# Altium schematic symbol library Voltage regulators.SchLib: 6 symbols
Pins are listed as number, name and electrical type; pins without a type are passive.

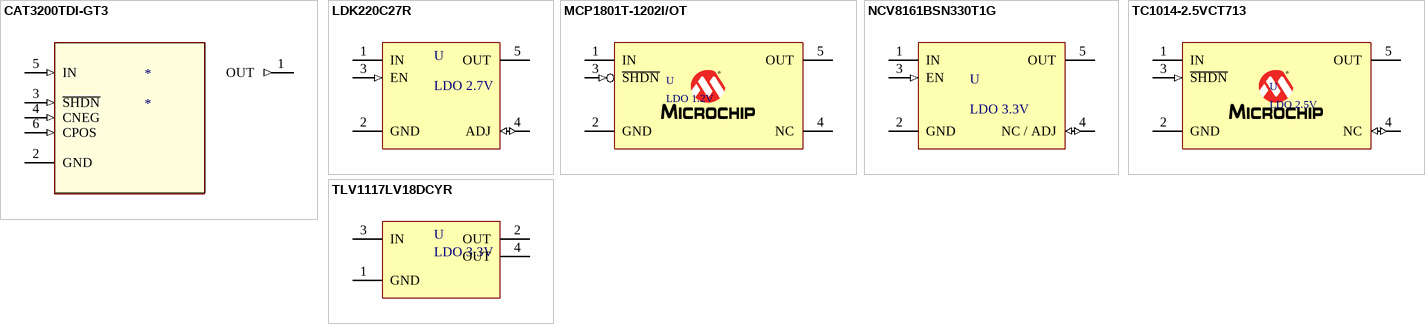
[diagram p0: symbols CAT3200TDI-GT3 to TLV1117LV18DCYR]

## CAT3200TDI-GT3
designator *
Switch-mode step up reg
footprint CAT3200TDI-GT3 (Switch-mode step up reg)
pins: 1 OUT (out), 2 GND, 3 ~{SHDN} (in), 4 CNEG (in), 5 IN (in), 6 CPOS (in)

## LDK220C27R
designator U, comment LDO 2.7V
LDO fixed 2.7V 200mA; Dropout voltage: 200mV; Supplier 1: Farnell; Supplier Part Number 1: 2435555; Output current: 200mA; Output voltage: 2.7V
footprint LDK220C27 (SOT23, 5-Leads, Body 2.95x2.80mm, Pitch 0.95mm, IPC Medium Density)
pins: 1 IN (power), 2 GND (power), 3 EN (in), 4 ADJ (io), 5 OUT (power)

## MCP1801T-1202I/OT
designator U, comment LDO 1.2V
LDO fixed 1.2V 150mA; Dropout voltage: 1.03V; Supplier 1: Farnell; Supplier Part Number 1: 1851980; Output current: 150mA; Output voltage: 1.2V
footprint MCP1801T-1202I/OT (SOT23, 5-Leads, Body 2,90x2,70mm, Pitch 0,95mm, IPC Medium Density)
pins: 1 IN (power), 2 GND (power), 3 ~{SHDN} (in), 4 NC, 5 OUT (power)

## NCV8161BSN330T1G
designator U, comment LDO 3.3V
LDO fixed 3.3V 450mA ultra-low noise; RMS noise: < 100 uVrms; Dropout voltage: 330mV; Supplier Part Number 1: 2775470; Supplier 1: Farnell; Output voltage: 3.3V; Output current: 450mA
footprint NCV8161BSN330T1G (SOT23, 5-Leads, Body 3.00x2.75mm, Pitch 0.95mm, IPC Medium Density)
pins: 1 IN (power), 2 GND (power), 3 EN (in), 4 NC / ADJ (io), 5 OUT (power)

## TC1014-2.5VCT713
designator U, comment LDO 2.5V
LDO fixed 2.5V 50mA; Dropout voltage: 85mV; Output voltage: 2.7V; Supplier 1: Farnell; Supplier Part Number 1: 1439490; Output current: 50mA
footprint TC1014-2.5VCT713 (SOT23, 5-Leads, Body 2,90x2,70mm, Pitch 0,95mm, IPC Medium Density)
pins: 1 IN (power), 2 GND (power), 3 ~{SHDN} (in), 4 NC (io), 5 OUT (power)

## TLV1117LV18DCYR
designator U, comment LDO 3.3V
LDO adju. 3.3V 1000mA; Dropout voltage: 570mV; Output voltage: 2V to 5.5V; Output current: 1000mA; Supplier Part Number 1: 2492356; Supplier 1: Farnell
footprint TLV1117LV18DCY (SOT223)
pins: 1 GND (power), 2 OUT (power), 3 IN (power), 4 OUT (power)